# EAGLE library part DAC8830 (library igleux-signal)
Texas instruments DAC8830 Datasheet <http://www.ti.com/lit/ds/symlink/dac8830.pdf> - Product page <http://www.ti.com/product/dac8830> 16-Bit SPI DAC, unbuffered
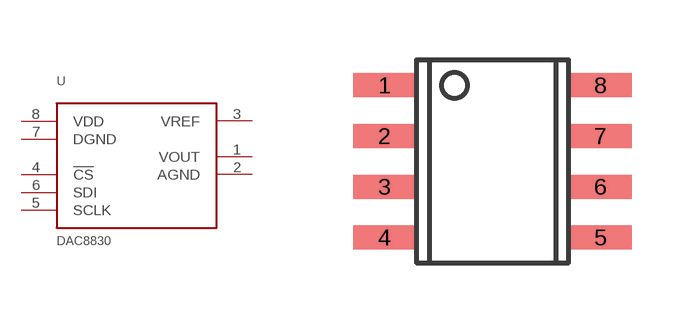
[diagram p0: symbol with the pads of SO-8; footprint SO-8]

Designator prefix -

## DAC8830  [SO-8]
1  VOUT
2  AGND  pwr
3  VREF
4  !CS  in
5  SCLK  in
6  SDI  in
7  DGND  pwr
8  VDD  pwr

## Footprint SO-8 (pad centres in mm)
smd 1.55 x 0.6: 1 -2.7,1.905; 2 -2.7,0.635; 3 -2.7,-0.635; 4 -2.7,-1.905; 5 2.7,-1.905; 6 2.7,-0.635; 7 2.7,0.635; 8 2.7,1.905